# EAGLE library part MC100EPT22 (library Jim)
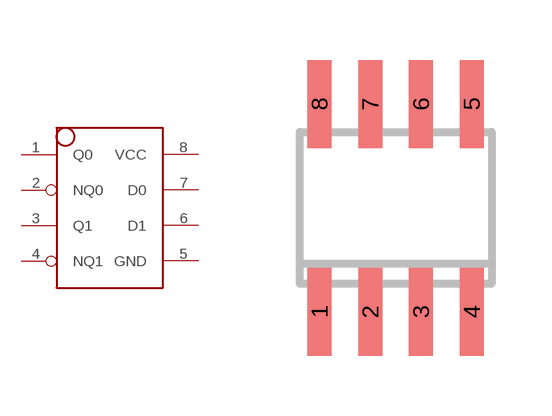
[diagram p29: symbol with the pads of SOIC-8; footprint SOIC-8]

Designator prefix -

## MC100EPT22  [SOIC-8]
1  Q0  out
2  NQ0  out
3  Q1  out
4  NQ1  out
5  GND  pwr
6  D1  in
7  D0  in
8  VCC  pwr

## Footprint SOIC-8 (pad centres in mm)
smd 0.6 x 2.2: 1 -1.905,-2.6; 2 -0.635,-2.6; 3 0.635,-2.6; 4 1.905,-2.6; 5 1.905,2.6; 6 0.635,2.6; 7 -0.635,2.6; 8 -1.905,2.6